# Altium footprint library BOURNS SRR6028.PCBLIB: 1 footprints
Each footprint in its own frame and in the unit in brackets; x right, y up, seen from the top. Pads: shape width x height; smd on the part's side, far side on the other; paste and mask are expansions set on the pad; w line width, h text height; cw(c..) or ccw(c..) is an arc to the next point about the centre after c.
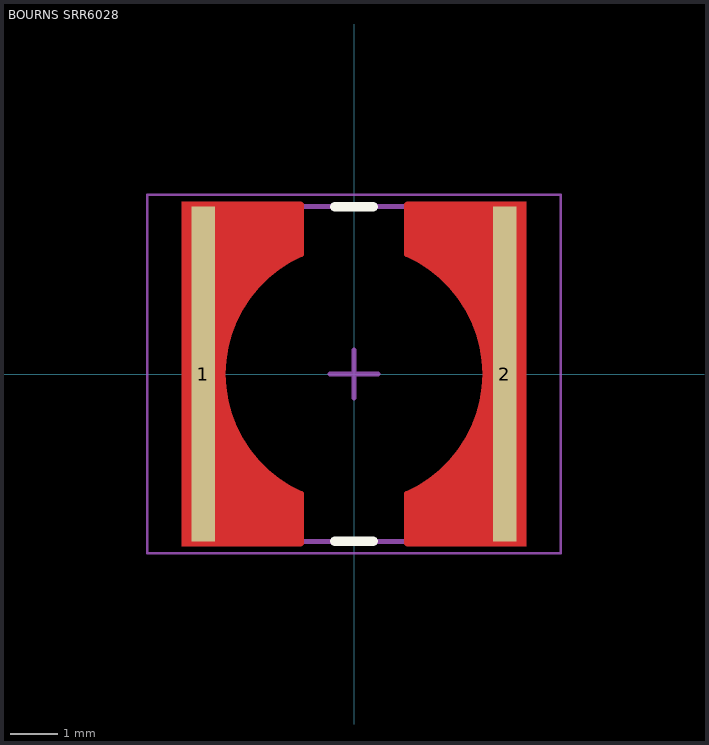
[diagram p0: the footprint, top view; thin cyan lines are the x and y axes]

## BOURNS SRR6028 [mm] "Precision Wire Wound Inductor, 2-Leads, Body 6.80x6.80mm, IPC Medium Density"
height 3
pads (2):
  rect 0.5x7 smd: 1(-3.15,0) 2(3.15,0)
Top Layer:
  region: -3.6,3.6 -1.1,3.6 -1.1,2.5 -1.4,2.4 -1.7,2.1 -1.9,2 -2.1,1.7 -2.3,1.4 -2.5,1 -2.6,0.7 -2.7,0.3 -2.7,0 -3.6,0
  region: -3.6,-3.6 -1.1,-3.6 -1.1,-2.5 -1.4,-2.4 -1.7,-2.1 -1.9,-2 -2.1,-1.7 -2.3,-1.4 -2.5,-1 -2.6,-0.7 -2.7,-0.3 -2.7,0 -3.6,0
  region: 3.6,-3.6 1.1,-3.6 1.1,-2.5 1.4,-2.4 1.7,-2.1 1.9,-2 2.1,-1.7 2.3,-1.4 2.5,-1 2.6,-0.7 2.7,-0.3 2.7,0 3.6,0
  region: 3.6,3.6 1.1,3.6 1.1,2.5 1.4,2.4 1.7,2.1 1.9,2 2.1,1.7 2.3,1.4 2.5,1 2.6,0.7 2.7,0.3 2.7,0 3.6,0
  lines w0.1: -1.1,-3.55 -1.1,-2.5 ; -1.1,-2.5 cw(c0,0) -2.731,0 cw(c0,0) -1.1,2.5 ; -1.1,2.5 -1.1,3.55 ; 1.1,-3.55 1.1,-2.5 ; 1.1,-2.5 ccw(c0,0) 2.731,0 ccw(c0,0) 1.1,2.5 ; 1.1,2.5 1.1,3.55
Top Overlay:
  lines w0.2: -0.4,-3.5 0.4,-3.5 ; -0.4,3.5 0.4,3.5
Mechanical 13:
  lines w0.1: -3.5,-3.5 -3.5,3.5 3.5,3.5 3.5,-3.5 -3.5,-3.5
Mechanical 15:
  lines w0.05: -4.325,-3.75 -4.325,3.75 4.325,3.75 4.325,-3.75 -4.325,-3.75
  lines w0.1: -0.5,0 0.5,0 ; 0,-0.5 0,0.5
3D body "Bourns SRR6028.STEP": height 2.8, standoff 0, extent -3.4,-3.4 3.4,3.4